# Altium footprint library reset_KEY.PcbLib: 1 footprints
Each footprint in its own frame and in the unit in brackets; x right, y up, seen from the top. Pads: shape width x height; smd on the part's side, far side on the other; paste and mask are expansions set on the pad; w line width, h text height; cw(c..) or ccw(c..) is an arc to the next point about the centre after c.
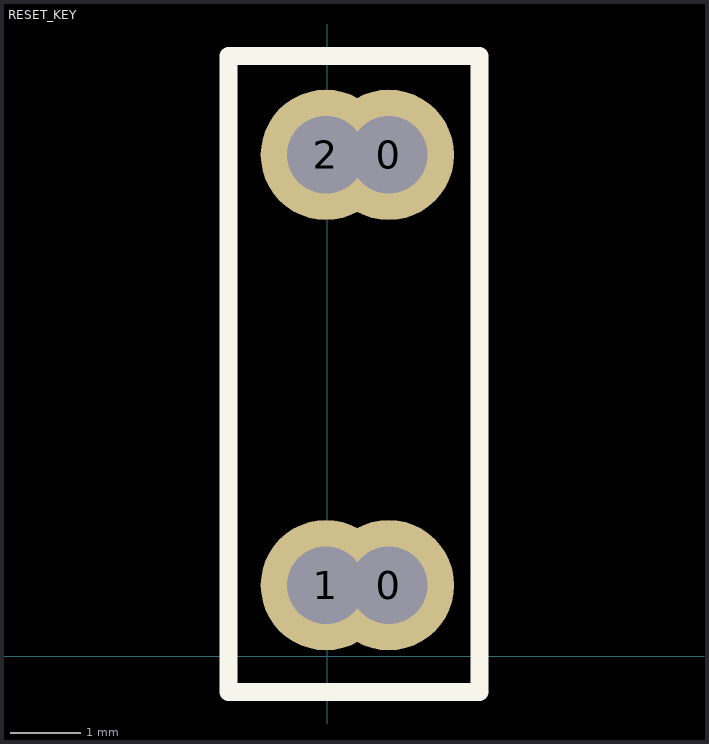
[diagram p0: the footprint, top view; thin cyan lines are the x and y axes]

## RESET_KEY [mm]
pads (4):
  round 1.85 hole 1.1: 0(0.873,1.009) 0(0.873,7.105) 1(-0.016,1.009) 2(-0.016,7.105)
Top Overlay:
  lines w0.254: -1.397,-0.508 2.159,-0.508 2.159,6.477 2.159,8.509 -1.397,8.509 -1.397,6.477 -1.397,-0.508